# EAGLE library part 76829-0106 (library 76829-0106)
Molex Mega-Fit 76829, 5.7mm Pitch, 6 Way, 2 Row, Vertical PCB Header, Through Hole Source: Datasheet <https://www.molex.com/pdm_docs/sd/768290106_sd.pdf>
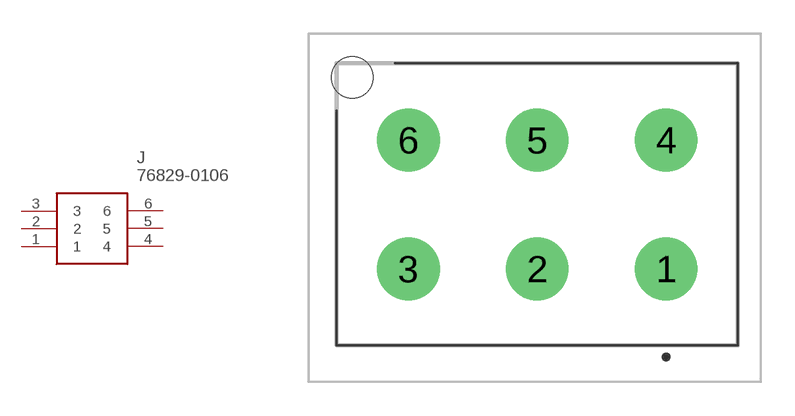
[diagram p0: symbol with the pads of 768290106; footprint 768290106]

Designator prefix J

## 76829-0106 (Description: Molex Mega-Fit 76829, 5.7mm Pitch, 6 Way, 2 Row, Vertical PCB Header, Through Hole; Height: 14.8mm; Manufacturer_Name: Molex; Manufacturer_Part_Number: 76829-0106; Mouser_Part_Number: 538-76829-0106; Mouser_Price-Stock: https://www.mouser.co.uk/ProductDetail/Molex/76829-0106?qs=BZBei1rCqCD%252Bpg7AxKdyaw%3D%3D)  [768290106]
1  1
2  2
3  3
4  4
5  5
6  6

## Footprint 768290106 (pad centres in mm)
76829-0106-2
drill 1.85 pad 2.775: 1 0,0; 2 -5.7,0; 3 -11.4,0; 4 0,5.7; 5 -5.7,5.7; 6 -11.4,5.7
hole 1.85 at -13.88,8.47